# Altium schematic symbol library stm32.SchLib: 2 symbols
Pins are listed as number, name and electrical type; pins without a type are passive.

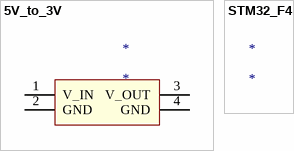
[diagram p0: symbols 5V_to_3V to STM32_F4]

## 5V_to_3V
designator *
pins: 1 V_IN, 2 GND, 3 V_OUT, 4 GND

## STM32_F4
designator *
1 alternate drawing of the same symbol